# Altium schematic symbol library Analog.SchLib: 16 symbols
Pins are listed as number, name and electrical type; pins without a type are passive.

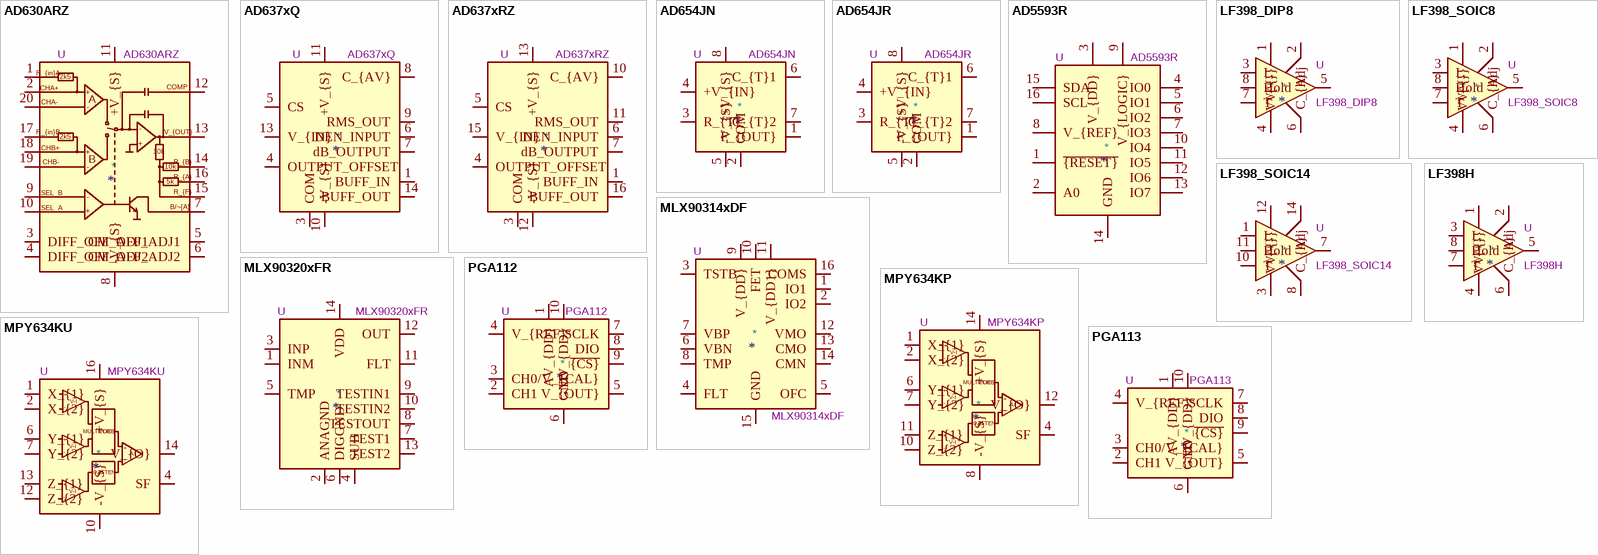
[diagram p0: symbols AD630ARZ to PGA113]

## AD630ARZ
designator *  value AD630ARZ  Reference: U
ki_keywords: modulator demodulator; ki_description: High precision Balanced Modulator/Demodulator, 2 MHz, SOIC-20W; ki_fp_filters: SOIC*7.5x12.8mm*P1.27mm*; Footprint: Package_SO:SOIC-20W_7.5x12.8mm_P1.27mm; Datasheet: https://www.analog.com/media/en/technical-documentation/data-sheets/ad630.pdf
pins: 1 R_{in}A, 2 CHA+, 3 DIFF_OFF_ADJ1, 4 DIFF_OFF_ADJ2, 5 CM_OFF_ADJ1, 6 CM_OFF_ADJ2, 7 B/~{{A}}, 8 -V_{S}, 9 SEL_B, 10 SEL_A, 11 +V_{S}, 12 COMP, 13 V_{OUT}, 14 R_{B}, 15 R_{F}, 16 R_{A}, 17 R_{in}B, 18 CHB+, 19 CHB-, 20 CHA-
text: 2k5; +; A; -; 10k; B; 5k; B/~{A}

## AD637xQ
designator *  value AD637xQ  Reference: U
ki_keywords: rms-to-dc; ki_description: High Precision, Wideband RMS-to-DC Converter, DIP-14; ki_fp_filters: DIP*W7.62mm*; Footprint: Package_DIP:DIP-14_W7.62mm; Datasheet: https://www.analog.com/media/en/technical-documentation/data-sheets/AD637.pdf
pins: 1 BUFF_IN, 2 NIC hidden, 3 COM, 4 OUTPUT_OFFSET, 5 CS, 6 DEN_INPUT, 7 dB_OUTPUT, 8 C_{AV}, 9 RMS_OUT, 10 -V_{S}, 11 +V_{S}, 12 NIC hidden, 13 V_{IN}, 14 BUFF_OUT

## AD637xRZ
designator *  value AD637xRZ  Reference: U
ki_keywords: rms-to-dc; ki_description: High Precision, Wideband RMS-to-DC Converter, SOIC-16; ki_fp_filters: SOIC*7.5x10.3mm*P1.27mm*; Footprint: Package_SO:SOIC-16W_7.5x10.3mm_P1.27mm; Datasheet: https://www.analog.com/media/en/technical-documentation/data-sheets/AD637.pdf
pins: 1 BUFF_IN, 2 NIC hidden, 3 COM, 4 OUTPUT_OFFSET, 5 CS, 6 DEN_INPUT, 7 dB_OUTPUT, 8 NIC hidden, 9 NIC hidden, 10 C_{AV}, 11 RMS_OUT, 12 -V_{S}, 13 +V_{S}, 14 NIC hidden, 15 V_{IN}, 16 BUFF_OUT

## AD654JN
designator *  value AD654JN  Reference: U
ki_keywords: v-to-f v-f; ki_description: Low Cost Monolithic Voltage-to-Frequency Converter, DIP-8; ki_fp_filters: DIP*W7.62mm*; Footprint: Package_DIP:DIP-8_W7.62mm; Datasheet: https://www.analog.com/media/en/technical-documentation/data-sheets/AD654.pdf
pins: 1 F_{OUT}, 2 COM, 3 R_{T}, 4 +V_{IN}, 5 -V_{S}, 6 C_{T}1, 7 C_{T}2, 8 +V_{S}

## AD654JR
designator *  value AD654JR  Reference: U
ki_keywords: v-to-f v-f; ki_description: Low Cost Monolithic Voltage-to-Frequency Converter, SOIC-8; ki_fp_filters: SOIC*3.9x4.9mm*P1.27mm*; Footprint: Package_SO:SOIC-8_3.9x4.9mm_P1.27mm; Datasheet: https://www.analog.com/media/en/technical-documentation/data-sheets/AD654.pdf
pins: 1 F_{OUT}, 2 COM, 3 R_{T}, 4 +V_{IN}, 5 -V_{S}, 6 C_{T}1, 7 C_{T}2, 8 +V_{S}

## AD5593R
designator *  value AD5593R  Reference: U
ki_keywords: 8channel 12bit ADC DAC GPIO I2C Temperature; ki_description: 8-channel 12bits configurable ADC/DAC/GPIO Internal Reference, I2C interface Integrated temperature sensor,Single Supply, TSSOP-16; ki_fp_filters: TSSOP*4.4x5mm*P0.65mm*; Footprint: Package_SO:TSSOP-16_4.4x5mm_P0.65mm; Datasheet: https://www.analog.com/media/en/technical-documentation/data-sheets/AD5593R.pdf
pins: 1 ~{{RESET}}, 2 A0, 3 V_{DD}, 4 IO0, 5 IO1, 6 IO2, 7 IO3, 8 V_{REF}, 9 V_{LOGIC}, 10 IO4, 11 IO5, 12 IO6, 13 IO7, 14 GND, 15 SDA, 16 SCL

## LF398_DIP8
designator *  value LF398_DIP8  Reference: U
ki_keywords: sample hold buffer unity gain; ki_description: Sample And Hold Unity Gain Follower, DIP-8; ki_fp_filters: *DIP*W7.62mm*; Footprint: Package_DIP:DIP-8_W7.62mm; Datasheet: http://www.ti.com/lit/ds/symlink/lf398-n.pdf
pins: 1 V^{+}, 2 Adj, 3 I, 4 V^{-}, 5, 6 C_{h}, 7 T, 8 Hold

## LF398_SOIC8
designator *  value LF398_SOIC8  Reference: U
ki_keywords: sample hold buffer unity gain; ki_description: Sample And Hold Unity Gain Follower, SOIC-8; ki_fp_filters: *SOIC*3.9x4.9mm*P1.27mm*; Footprint: Package_SO:SOIC-8_3.9x4.9mm_P1.27mm; Datasheet: https://www.analog.com/media/en/technical-documentation/data-sheets/lt0398s8.pdf
pins: 1 V^{+}, 2 Adj, 3 I, 4 V^{-}, 5, 6 C_{h}, 7 T, 8 Hold

## LF398_SOIC14
designator *  value LF398_SOIC14  Reference: U
ki_keywords: sample hold buffer unity gain; ki_description: Sample And Hold Unity Gain Follower, SOIC-14; ki_fp_filters: *SOIC*3.9x8.7mm*P1.27mm*; Footprint: Package_SO:SOIC-14_3.9x8.7mm_P1.27mm; Datasheet: http://www.ti.com/lit/ds/symlink/lf398-n.pdf
pins: 1 I, 2 NC hidden, 3 V^{-}, 4 NC hidden, 5 NC hidden, 6 NC hidden, 7, 8 C_{h}, 9 NC hidden, 10 T, 11 Hold, 12 V^{+}, 13 NC hidden, 14 Adj

## LF398H
designator *  value LF398H  Reference: U
ki_keywords: sample hold buffer unity gain; ki_description: Sample And Hold Unity Gain Follower, TO-99-8; ki_fp_filters: *TO*99*; Footprint: Package_TO_SOT_THT:TO-99-8; Datasheet: http://www.ti.com/lit/ds/symlink/lf398-n.pdf
pins: 1 V^{+}, 2 Adj, 3 I, 4 V^{-}, 5, 6 C_{h}, 7 T, 8 Hold

## MLX90314xDF
designator *  value MLX90314xDF  Reference: U
ki_keywords: sensor signal conditioning; ki_description: Programmable Sensor Interface (Signal Conditioner), SOIC-16W; ki_fp_filters: SOIC*7.5x10.3mm*P1.27mm*; Footprint: Package_SO:SOIC-16W_7.5x10.3mm_P1.27mm; Datasheet: https://media.digikey.com/pdf/Data%20Sheets/Melexis%20PDFs/MLX90314_Rev008.pdf
pins: 1 IO1, 2 IO2, 3 TSTB, 4 FLT, 5 OFC, 6 VBN, 7 VBP, 8 TMP, 9 V_{DD}, 10 FET, 11 V_{DD1}, 12 VMO, 13 CMO, 14 CMN, 15 GND, 16 COMS

## MLX90320xFR
designator *  value MLX90320xFR  Reference: U
ki_keywords: sensor signal conditioning; ki_description: Programmable Automotive Sensor Interface (Signal Conditioner), SSOP-14; ki_fp_filters: SSOP*5.3x6.2mm*P0.65mm*; Footprint: Package_SO:SSOP-14_5.3x6.2mm_P0.65mm; Datasheet: https://www.mouser.com/datasheet/2/734/MLX90320-Datasheet-Melexis-953341.pdf
pins: 1 INM, 2 ANAGND, 3 INP, 4 SUB, 5 TMP, 6 DIGGND, 7 TEST1, 8 TESTOUT, 9 TESTIN1, 10 TESTIN2, 11 FLT, 12 OUT, 13 TEST2, 14 VDD

## MPY634KP
designator *  value MPY634KP  Reference: U
ki_keywords: analog multiplier; ki_description: Wide Bandwidth Precision Analog Multiplier, DIP-14; ki_fp_filters: DIP*W7.62mm*; Footprint: Package_DIP:DIP-14_W7.62mm; Datasheet: http://www.ti.com/lit/ds/symlink/mpy634.pdf
pins: 1 X_{1}, 2 X_{2}, 3 NC hidden, 4 SF, 5 NC hidden, 6 Y_{1}, 7 Y_{2}, 8 -V_{S}, 9 NC hidden, 10 Z_{2}, 11 Z_{1}, 12 V_{O}, 13 NC hidden, 14 +V_{S}
text: +; V-I; -; MULTIPLIER; CORE; A; 0.75; ATTEN

## MPY634KU
designator *  value MPY634KU  Reference: U
ki_keywords: analog multiplier; ki_description: Wide Bandwidth Precision Analog Multiplier, SOIC-16W; ki_fp_filters: SOIC*7.5x10.3mm*P1.27mm*; Footprint: Package_SO:SOIC-16W_7.5x10.3mm_P1.27mm; Datasheet: http://www.ti.com/lit/ds/symlink/mpy634.pdf
pins: 1 X_{1}, 2 X_{2}, 3 NC hidden, 4 SF, 5 NC hidden, 6 Y_{1}, 7 Y_{2}, 8 NC hidden, 9 NC hidden, 10 -V_{S}, 11 NC hidden, 12 Z_{2}, 13 Z_{1}, 14 V_{O}, 15 NC hidden, 16 +V_{S}
text: +; V-I; -; MULTIPLIER; CORE; A; 0.75; ATTEN

## PGA112
designator *  value PGA112  Reference: U
ki_keywords: PGA SPI; ki_description: Zero-Drift Programmable Gain Amplifier With Mux, x1/x2/x4/x8/x16/x32/x64/x128 gains, VSSOP-10; ki_fp_filters: TSSOP*3x3mm*P0.5mm*; Footprint: Package_SO:TSSOP-10_3x3mm_P0.5mm; Datasheet: http://www.ti.com/lit/ds/sbos424c/sbos424c.pdf
pins: 1 AV_{DD}, 2 CH1, 3 CH0/V_{CAL}, 4 V_{REF}, 5 V_{OUT}, 6 GND, 7 SCLK, 8 DIO, 9 ~{{CS}}, 10 DV_{DD}

## PGA113
designator *  value PGA113  Reference: U
ki_keywords: PGA SPI; ki_description: Zero-Drift Programmable Gain Amplifier With Mux, x1/x2/x5/x10/x20/x50/x100/x200 gains, VSSOP-10; ki_fp_filters: TSSOP*3x3mm*P0.5mm*; Footprint: Package_SO:TSSOP-10_3x3mm_P0.5mm; Datasheet: http://www.ti.com/lit/ds/sbos424c/sbos424c.pdf
pins: 1 AV_{DD}, 2 CH1, 3 CH0/V_{CAL}, 4 V_{REF}, 5 V_{OUT}, 6 GND, 7 SCLK, 8 DIO, 9 ~{{CS}}, 10 DV_{DD}